# EAGLE library part 685119136923 (library InputOutputIO (rev18b))
WR-COM SMT Horizontal Mini HDMI, 19 pins=>Code : Con_I-O_COM_Mini-HDMI_685119136923 <http://katalog.we-online.de/media/images/eican/Con_I-O_COM_Mini-HDMI_685119136923_pf2.jpg> Details see: http://katalog.we-online.de/en/em/COM_MINI_SMT_HORIZONTAL/685119136923 Created 2014-07-09, Karrer Zheng 2014 (C) Würth Elektronik
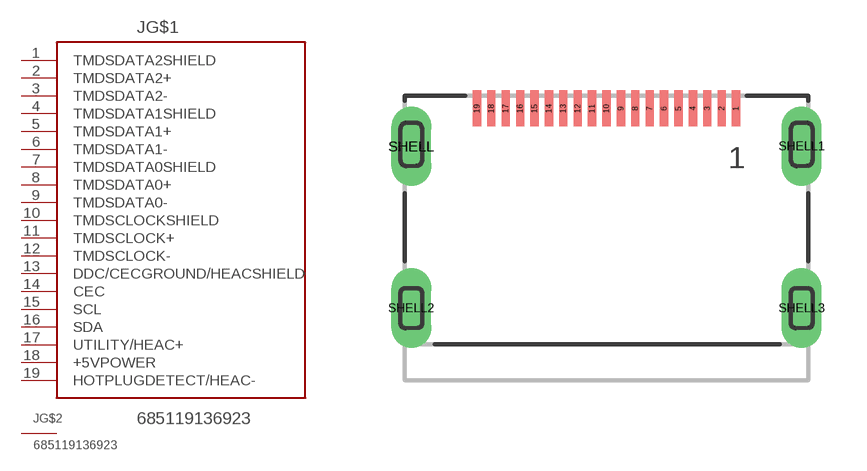
[diagram p75: symbol with the pads of 685119136923; footprint 685119136923]

Designator prefix J; gates G$1=HDMI_TYPC G$2=SHIELD

## 685119136923  [685119136923]
1  G$1:TMDSDATA2SHIELD  pas
2  G$1:TMDSDATA2+  pas
3  G$1:TMDSDATA2-  pas
4  G$1:TMDSDATA1SHIELD  pas
5  G$1:TMDSDATA1+  pas
6  G$1:TMDSDATA1-  pas
7  G$1:TMDSDATA0SHIELD  pas
8  G$1:TMDSDATA0+  pas
9  G$1:TMDSDATA0-  pas
10  G$1:TMDSCLOCKSHIELD  pas
11  G$1:TMDSCLOCK+  pas
12  G$1:TMDSCLOCK-  pas
13  G$1:DDC/CECGROUND/HEACSHIELD  pas
14  G$1:CEC  pas
15  G$1:SCL  pas
16  G$1:SDA  pas
17  G$1:UTILITY/HEAC+  pas
18  G$1:+5VPOWER  pwr
19  G$1:HOTPLUGDETECT/HEAC-  pas
SHELL  G$2:SHIELD  pas
SHELL1  G$2:SHIELD  pas
SHELL2  G$2:SHIELD  pas
SHELL3  G$2:SHIELD  pas

## Footprint 685119136923 (pad centres in mm)
WR-COM SMT Horizontal Mini HDMI, 19 pins
smd 0.23 x 1: 1 3.6,1.05; 2 3.2,1.05; 3 2.8,1.05; 4 2.4,1.05; 5 2,1.05; 6 1.6,1.05; 7 1.2,1.05; 8 0.8,1.05; 9 0.4,1.05; 10 0,1.05; 11 -0.4,1.05; 12 -0.8,1.05; 13 -1.2,1.05; 14 -1.6,1.05; 15 -2,1.05; 16 -2.4,1.05; 17 -2.8,1.05; 18 -3.2,1.05; 19 -3.6,1.05
drill 0.6 long: SHELL -5.425,0; SHELL1 5.425,0; SHELL2 -5.425,-4.5; SHELL3 5.425,-4.5